# Altium schematic symbol library PCF85063ATL.SchLib: 1 symbol
Pins are listed as number, name and electrical type; pins without a type are passive.

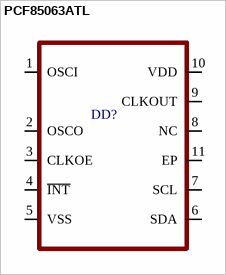
[diagram p0: symbol PCF85063ATL]

## PCF85063ATL
designator DD?
pins: 1 OSCI, 2 OSCO, 3 CLKOE, 4 ~{INT}, 5 VSS, 6 SDA, 7 SCL, 8 NC, 9 CLKOUT, 10 VDD, 11 EP